# Altium schematic symbol library DM3AT-SF-PEJM5_40_.SchLib: 1 symbol
Pins are listed as number, name and electrical type; pins without a type are passive.

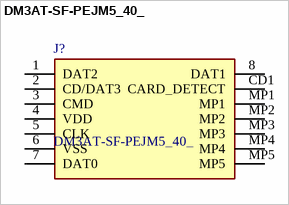
[diagram p0: symbol DM3AT-SF-PEJM5_40_]

## DM3AT-SF-PEJM5_40_
designator J?
Memory Card Connectors MICRO SD CD CONN STD SMT PUSHPUSH; Manufacturer_Name: Hirose; Manufacturer_Part_Number: DM3AT-SF-PEJM5(40); Geometry.Height: 1.83mm; Mouser Part Number: 798-DM3AT-SF-PEJM540; Mouser Price/Stock: https://www.mouser.co.uk/ProductDetail/Hirose-Connector/DM3AT-SF-PEJM540?qs=0WLLhGLuJYzPvbo0KPPEoQ%3D%3D; Datasheet Link: https://componentsearchengine.com/Datasheets/2/DM3AT-SF-PEJM5(40).pdf
footprint DM3ATSFPEJM540
pins: 1 DAT2, 2 CD/DAT3, 3 CMD, 4 VDD, 5 CLK, 6 VSS, 7 DAT0, 8 DAT1, CD1 CARD_DETECT, MP1, MP2, MP3, MP4, MP5